# Altium schematic symbol library Sullins.SchLib: 1 symbol
Pins are listed as number, name and electrical type; pins without a type are passive.

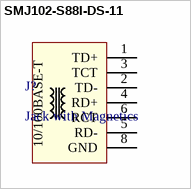
[diagram p0: symbol SMJ102-S88I-DS-11]

## SMJ102-S88I-DS-11
designator J?, comment Jack with Magnetics
10/100BASE-T Jack with Magnetics
footprint SMJ102-S88I-DS-11 (10/100BASE-T Jack with Magnetics)
pins: 1 TD+, 2 TD-, 3 TCT, 4 RD+, 5 RD-, 6 RCT, 8 GND
text: 10/100BASE-T